# Altium footprint library PcbLib1.PcbLib: 23 footprints (part 1 of 2)
Each footprint in its own frame and in the unit in brackets; x right, y up, seen from the top. Pads: shape width x height; smd on the part's side, far side on the other; paste and mask are expansions set on the pad; w line width, h text height; cw(c..) or ccw(c..) is an arc to the next point about the centre after c.
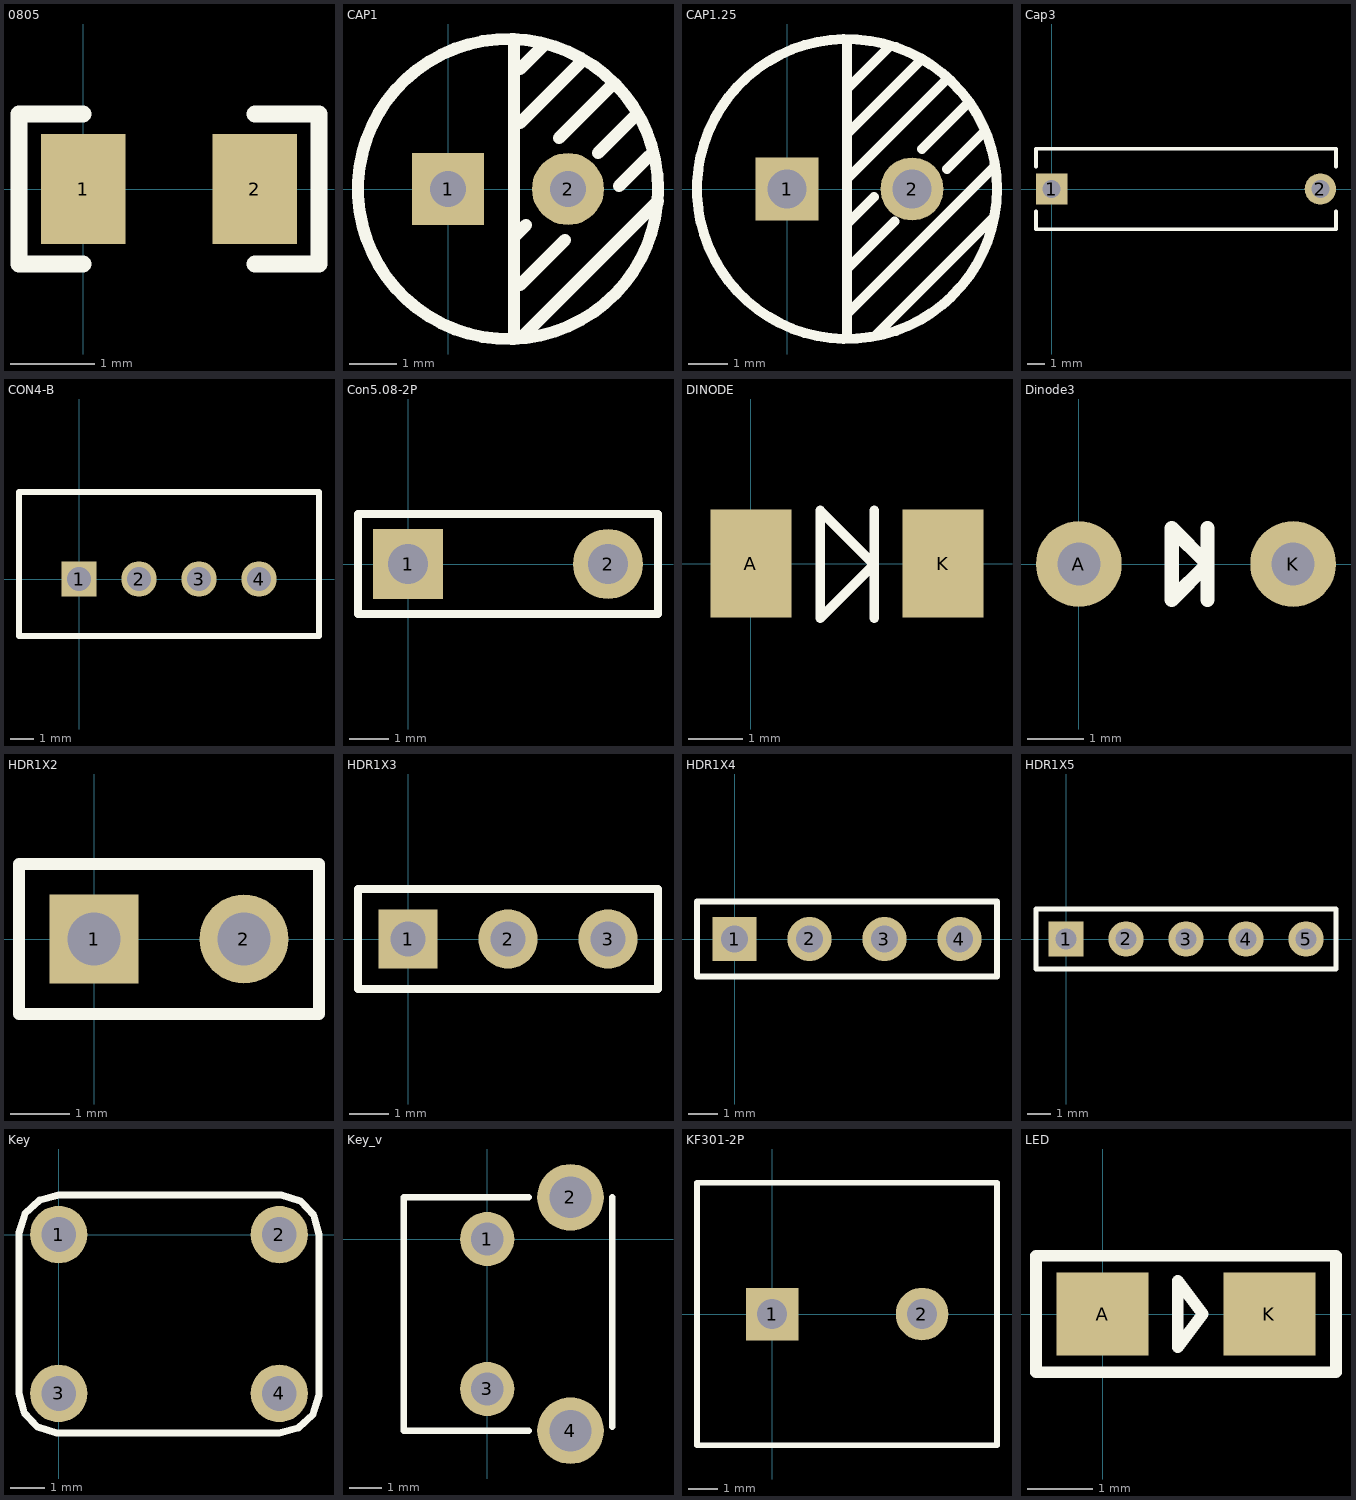
[diagram p0: the footprints below, top view; thin cyan lines are the x and y axes]

## 0805 [mm] "Chip Resistor, Body 2.0x1.2mm, IPC High Density"
height 0.7
pads (2):
  rect 1x1.3 smd: 1(0,0) 2(2.032,0)
Top Overlay:
  lines w0.2: 0,-0.889 -0.762,-0.889 -0.762,0.889 0,0.889 ; 2.032,-0.889 2.794,-0.889 2.794,0.889 2.032,0.889

## CAP1 [mil]
height 47.24
pads (2):
  rect 60x60 hole 30: 1(0,0)
  round 60 hole 30: 2(100,0)
Top Overlay:
  circle w10: c50,0 r125
  lines w10: 55,-125 55,125 ; 55,-40 65,-30 ; 60,-80 97.5,-42.5 ; 60,55 110,105 ; 60,100 80,120 ; 62.5,-122.5 175,-10 ; 92.5,42.5 135,85 ; 125,30 157.5,62.5 ; 142.5,2.5 167.5,27.5

## CAP1.25 [mm]
height 1.2
pads (2):
  rect 1.6x1.6 hole 1: 1(0,0)
  round 1.6 hole 1: 2(3.175,0)
Top Overlay:
  circle w0.254: c1.524,0 r3.81
  lines w0.254: 1.524,-3.683 1.524,3.683 ; 1.524,-2.032 2.73,-0.826 ; 1.524,-0.889 2.207,-0.206 ; 1.524,0.254 4.064,2.794 ; 1.524,1.397 3.365,3.238 ; 1.524,2.54 2.54,3.556 ; 1.587,-3.111 5.271,0.572 ; 2.286,-3.683 5.207,-0.762 ; 3.429,1.016 4.572,2.159 ; 4.064,0.508 4.953,1.397

## Cap3 [mil] "15mm"
height 66.93
pads (2):
  rect 70x70 hole 40: 1(0,0)
  round 70 hole 40: 2(600,0)
Top Overlay:
  lines w7.87: -35,-50 -35,-90 635,-90 635,-50 ; -35,50 -35,90 635,90 635,50

## CON4-B [mm]
height 1.2
pads (4):
  rect 1.5x1.5 hole 1: 1(0,0)
  round 1.5 hole 1: 2(2.54,0) 3(5.08,0) 4(7.62,0)
Top Overlay:
  lines w0.254: -2.54,-2.413 -2.54,3.683 10.16,3.683 10.16,-2.413 -2.54,-2.413

## Con5.08-2P [mil] "Connector; Header; 2 Position"
height 66.93
pads (2):
  rect 70x70 hole 40: 1(0,0)
  round 70 hole 40: 2(200,0)
Top Overlay:
  lines w7.87: -50,-50 250,-50 250,50 -50,50 -50,-50

## DINODE [mm]
pads (2):
  rect 1.5x2 smd: A(0,0) K(3.556,0)
Top Overlay:
  lines w0.178: 2.281,-1.015 2.281,0.985 ; 1.281,-1.015 1.281,0.985 2.281,-0.015 1.281,-1.015

## Dinode3 [mil]
pads (2):
  round 60 hole 30: A(0,0) K(150,0)
Top Overlay:
  lines w10: 90,-25 90,25 ; 65,-25 90,0 65,25 65,-25

## HDR1X2 [mm] "Connector; Header; 2 Position"
height 1.7
pads (2):
  rect 1.5x1.5 hole 0.9: 1(0,0)
  round 1.5 hole 0.9: 2(2.54,0)
Top Overlay:
  lines w0.2: -1.27,-1.27 3.81,-1.27 3.81,1.27 -1.27,1.27 -1.27,-1.27

## HDR1X3 [mm] "Connector; Header; 3 Position"
height 1.7
pads (3):
  rect 1.5x1.5 hole 0.9: 1(0,0)
  round 1.5 hole 0.9: 2(2.54,0) 3(5.08,0)
Top Overlay:
  lines w0.2: -1.27,-1.27 6.35,-1.27 6.35,1.27 -1.27,1.27 -1.27,-1.27

## HDR1X4 [mm] "Connector; Header; 4 Position"
height 1.7
pads (4):
  rect 1.5x1.5 hole 0.9: 1(0,0)
  round 1.5 hole 0.9: 2(2.54,0) 3(5.08,0) 4(7.62,0)
Top Overlay:
  lines w0.2: -1.27,-1.27 8.89,-1.27 8.89,1.27 -1.27,1.27 -1.27,-1.27

## HDR1X5 [mm] "Connector; Header; 5 Position"
height 1.7
pads (5):
  rect 1.5x1.5 hole 0.9: 1(0,0)
  round 1.5 hole 0.9: 2(2.54,0) 3(5.08,0) 4(7.62,0) 5(10.16,0)
Top Overlay:
  lines w0.2: -1.27,-1.27 11.43,-1.27 11.43,1.27 -1.27,1.27 -1.27,-1.27

## Key [mil]
pads (4):
  round 65 hole 39.37: 1(0,0) 2(250,0) 3(0,-180) 4(250,-180)
Top Overlay:
  lines w8: -45,-180 -39,-202 -24,-218 -2,-225 0,-225 250,-225 272,-219 288,-204 295,-182 295,-180 295,0 289,22 274,38 252,45 250,45 0,45 -22,39 -38,24 -45,2 -45,0 -45,-180

## Key_v [mil]
pads (4):
  round 65 hole 39.37: 1(0,0) 3(0,-180)
  round 80 hole 50: 2(100,50) 4(100,-230)
Top Overlay:
  lines w8: 50,-230 -100,-230 -100,50 50,50 ; 150,-225 150,50

## KF301-2P [mil] "Connector; Header; 2 Position"
height 66.93
pads (2):
  rect 70x70 hole 40: 1(0,0)
  round 70 hole 40: 2(200,0)
Top Overlay:
  lines w7.87: -100,-175 -100,175 300,175 300,-175 -100,-175

## LED [mm]
pads (2):
  rect 1.4x1.27 smd: A(0,0) K(2.54,0)
Top Overlay:
  lines w0.178: 3.556,0.865 3.556,-0.889 -1.016,-0.889 -1.016,0.889 3.556,0.889 ; 1.143,-0.508 1.143,0.508 1.524,0 1.143,-0.508